# Altium footprint library SRP6060FA-5R6M.PcbLib: 2 footprints
Each footprint in its own frame and in the unit in brackets; x right, y up, seen from the top. Pads: shape width x height; smd on the part's side, far side on the other; paste and mask are expansions set on the pad; w line width, h text height; cw(c..) or ccw(c..) is an arc to the next point about the centre after c.
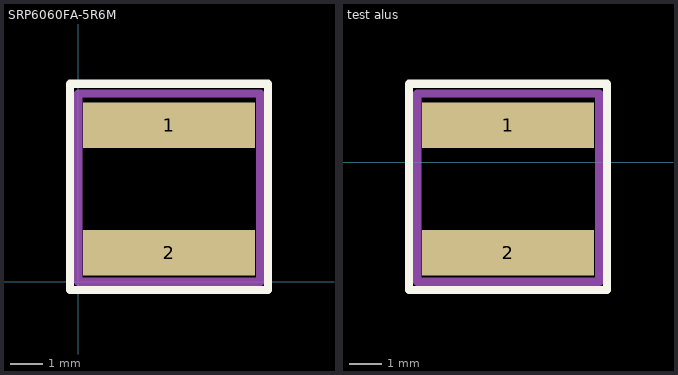
[diagram p0: the footprints below, top view; thin cyan lines are the x and y axes]

## SRP6060FA-5R6M [mm]
pads (2):
  rect 5.3x1.4 smd: 1(2.794,4.826) 2(2.794,0.889)
Top Overlay:
  lines w0.254: -0.254,-0.254 5.842,-0.254 5.842,6.096 -0.254,6.096 -0.254,-0.254
Mechanical 1:
  lines w0.254: 0,0 0,5.8 5.6,5.8 5.6,0 0,0

## test alus [mm]
pads (2):
  rect 5.3x1.4 smd: 1(8.763,1.143) 2(8.763,-2.794)
Top Overlay:
  lines w0.254: 5.715,-3.937 11.811,-3.937 11.811,2.413 5.715,2.413 5.715,-3.937
Mechanical 1:
  lines w0.254: 5.969,-3.683 5.969,2.117 11.569,2.117 11.569,-3.683 5.969,-3.683